# EAGLE library part AD650 (library analog-devices)
AD650 - Voltage-to-Frequency and Frequency-to-Voltage Converter Source: http://www.analog.com/en/prod/0,,760_794_AD650,00.html
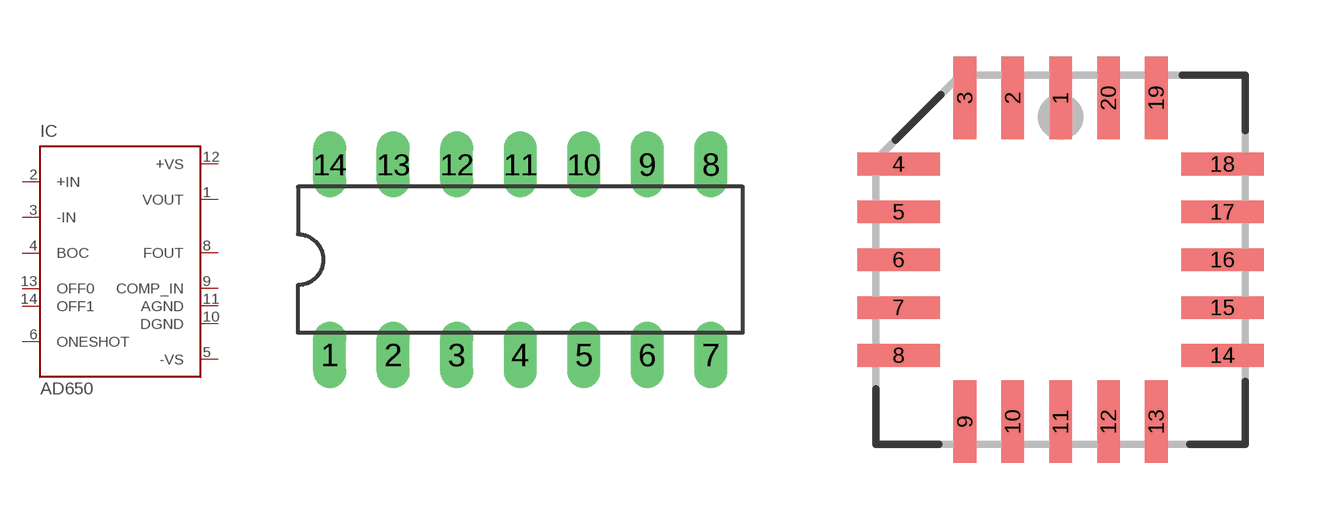
[diagram p65: symbol with the pads of DIL14; footprints DIL14, PLCC20]

Designator prefix IC

## AD650N (MF: ALTERA CORPORATION; MPN: AD650KN; OC_FARNELL: 1464457; OC_NEWARK: 05F7159)  [DIL14]
1  VOUT  out
2  +IN  in
3  -IN  in
4  BOC  pas
5  -VS  in
6  ONESHOT  pas
8  FOUT  out
9  COMP_IN  in
10  DGND  in
11  AGND  in
12  +VS  in
13  OFF0  in
14  OFF1  in

## AD650P (OC_FARNELL: unknown; OC_NEWARK: unknown)  [PLCC20]
2  VOUT  out
3  +IN  in
4  -IN  in
6  BOC  pas
8  -VS  in
9  ONESHOT  pas
12  FOUT  out
13  COMP_IN  in
14  DGND  in
16  AGND  in
18  +VS  in
19  OFF0  in
20  OFF1  in

## Footprint DIL14 (pad centres in mm)
Dual In Line Package
drill 0.813 long: 1 -7.62,-3.81; 2 -5.08,-3.81; 3 -2.54,-3.81; 4 0,-3.81; 5 2.54,-3.81; 6 5.08,-3.81; 7 7.62,-3.81; 8 7.62,3.81; 9 5.08,3.81; 10 2.54,3.81; 11 0,3.81; 12 -2.54,3.81; 13 -5.08,3.81; 14 -7.62,3.81

## Footprint PLCC20 (pad centres in mm)
Plastic Leaded Chip Carrier IPC standard
smd 0.6 x 2.2: 1 0,4.3; 2 -1.27,4.3; 3 -2.54,4.3; 9 -2.54,-4.3; 10 -1.27,-4.3; 11 0,-4.3; 12 1.27,-4.3; 13 2.54,-4.3; 19 2.54,4.3; 20 1.27,4.3
smd 2.2 x 0.6: 4 -4.3,2.54; 5 -4.3,1.27; 6 -4.3,0; 7 -4.3,-1.27; 8 -4.3,-2.54; 14 4.3,-2.54; 15 4.3,-1.27; 16 4.3,0; 17 4.3,1.27; 18 4.3,2.54